# Altium schematic symbol library GENERIC_N_MOSFET_GSD.Schlib: 1 symbol
Pins are listed as number, name and electrical type; pins without a type are passive.

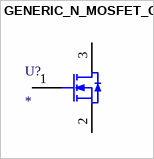
[diagram p0: symbol GENERIC_N_MOSFET_GSD]

## GENERIC_N_MOSFET_GSD
designator U?
pins: 1 G, 2 S, 3 D